# Altium footprint library Particle.PcbLib: 2 footprints
Each footprint in its own frame and in the unit in brackets; x right, y up, seen from the top. Pads: shape width x height; smd on the part's side, far side on the other; paste and mask are expansions set on the pad; w line width, h text height; cw(c..) or ccw(c..) is an arc to the next point about the centre after c.
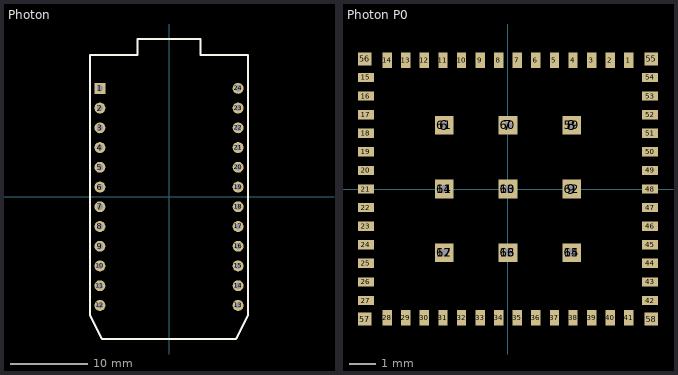
[diagram p0: the footprints below, top view; thin cyan lines are the x and y axes]

## Photon [mm]
pads (24):
  rect 1.4x1.4 hole 0.8: 1(-8.89,13.97)
  round 1.4 hole 0.8: 2(-8.89,11.43) 3(-8.89,8.89) 4(-8.89,6.35) 5(-8.89,3.81) 6(-8.89,1.27) 7(-8.89,-1.27) 8(-8.89,-3.81) 9(-8.89,-6.35) 10(-8.89,-8.89) 11(-8.89,-11.43) 12(-8.89,-13.97) 13(8.89,-13.97) 14(8.89,-11.43) 15(8.89,-8.89) 16(8.89,-6.35) 17(8.89,-3.81) 18(8.89,-1.27) 19(8.89,1.27) 20(8.89,3.81) 21(8.89,6.35) 22(8.89,8.89) 23(8.89,11.43) 24(8.89,13.97)
Top Overlay:
  lines w0.254: -10.16,-15.24 -10.16,18.288 -4.064,18.288 -4.064,20.32 4.064,20.32 4.064,18.288 10.16,18.288 10.16,-15.24 8.636,-18.288 -8.636,-18.288 -10.16,-15.24
3D body: height 15.34, standoff 1.73, extent -10.185,-18.291 10.185,19.357
3D body: height 8.5, standoff 0, extent -10.14,-15.494 -7.64,15.494
3D body: height 8.5, standoff 0, extent 7.64,-15.494 10.14,15.494

## Photon P0 [mm]
pads (76):
  rect 0.35x0.6 smd: 1(4.55,4.85) 2(3.85,4.85) 3(3.15,4.85) 4(2.45,4.85) 5(1.75,4.85) 6(1.05,4.85) 7(0.35,4.85) 8(-0.35,4.85) 9(-1.05,4.85) 10(-1.75,4.85) 11(-2.45,4.85) 12(-3.15,4.85) 13(-3.85,4.85) 14(-4.55,4.85) 28(-4.55,-4.85) 29(-3.85,-4.85) 30(-3.15,-4.85) 31(-2.45,-4.85) 32(-1.75,-4.85) 33(-1.05,-4.85) 34(-0.35,-4.85) 35(0.35,-4.85) 36(1.05,-4.85) 37(1.75,-4.85) 38(2.45,-4.85) 39(3.15,-4.85) 40(3.85,-4.85) 41(4.55,-4.85)
  rect 0.7x0.7 on Top Paste: 6(-2.4,2.4) 7(0,2.4) 8(2.4,2.4) 9(2.4,0) 10(0,0) 11(-2.4,0) 12(-2.4,-2.4) 13(0,-2.4) 14(2.4,-2.4)
  rect 0.6x0.35 smd: 15(-5.35,4.2) 16(-5.35,3.5) 17(-5.35,2.8) 18(-5.35,2.1) 19(-5.35,1.4) 20(-5.35,0.7) 21(-5.35,0) 22(-5.35,-0.7) 23(-5.35,-1.4) 24(-5.35,-2.1) 25(-5.35,-2.8) 26(-5.35,-3.5) 27(-5.35,-4.2) 42(5.35,-4.2) 43(5.35,-3.5) 44(5.35,-2.8) 45(5.35,-2.1) 46(5.35,-1.4) 47(5.35,-0.7) 48(5.35,0) 49(5.35,0.7) 50(5.35,1.4) 51(5.35,2.1) 52(5.35,2.8) 53(5.35,3.5) 54(5.35,4.2)
  rect 0.5x0.5 smd: 55(5.4,4.9) 56(-5.4,4.9) 57(-5.4,-4.9) 58(5.4,-4.9)
  rect 0.7x0.7 hole 0.3 unplated: 59(2.4,2.4) 60(0,2.4) 61(-2.4,2.4) 62(2.4,0) 63(0,0) 64(-2.4,0) 65(2.4,-2.4) 66(0,-2.4) 67(-2.4,-2.4)
3D body: height 1.31, standoff 0, extent 3.501,3 4.5,4
3D body: height 1.3, standoff 0.65, extent -5.5,-5 5.5,5
3D body: height 0.65, standoff 0, extent -6,-5.5 6,5.5